# EAGLE library part 217175-0001 (library 217175-0001)
Connector USB Type C Female 6Positions 0.5mm Right Angle SMT Embossed T/R - Tape and Reel Source: Datasheet <https://www.molex.com/pdm_docs/sd/2171750001_sd.pdf>
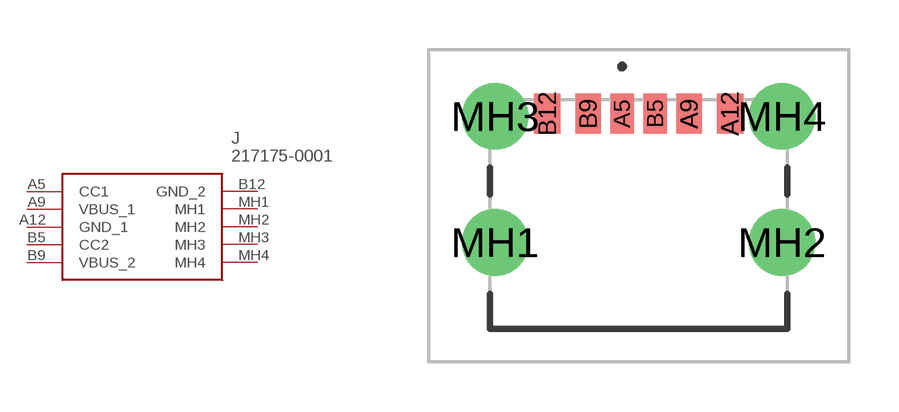
[diagram p0: symbol with the pads of 2171750001; footprint 2171750001]

Designator prefix J

## 217175-0001 (Description: Connector USB Type C Female 6Positions 0.5mm Right Angle SMT Embossed T/R - Tape and Reel; Height: 3.46mm; Manufacturer_Name: Molex; Manufacturer_Part_Number: 217175-0001; Mouser_Part_Number: 538-217175-0001; Mouser_Price-Stock: https://www.mouser.co.uk/ProductDetail/Molex/217175-0001?qs=DRkmTr78QARWJMiqNnldSg%3D%3D)  [2171750001]
A5  CC1
A9  VBUS_1
A12  GND_1
B5  CC2
B9  VBUS_2
B12  GND_2
MH1  MH1
MH2  MH2
MH3  MH3
MH4  MH4

## Footprint 2171750001 (pad centres in mm)
217175-0001
smd 0.7 x 1.2: A5 -0.5,3.03; B5 0.5,3.03
smd 0.76 x 1.2: A9 1.52,3.03; B9 -1.52,3.03
smd 0.8 x 1.2: A12 2.75,3.03; B12 -2.75,3.03
drill 1.34 pad 2.01: MH1 -4.32,-0.85; MH2 4.32,-0.85; MH3 -4.32,2.95; MH4 4.32,2.95